# Altium schematic symbol library SCH - DIODES - DIODE ZENER PIN13.SCHLIB: 1 symbol
Pins are listed as number, name and electrical type; pins without a type are passive.

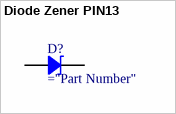
[diagram p0: symbol Diode Zener PIN13]

## Diode Zener PIN13
designator D?
Zener Diode
pins: 1, 3